# EAGLE library part THS6012 (library opamps)
THS6012: Dual high-current differential line driver (Texas Instruments) ±15V, ±400mA, 12µA bias 7mV offset, 100MHz UGF, 1.7nV/rt(Hz) noise
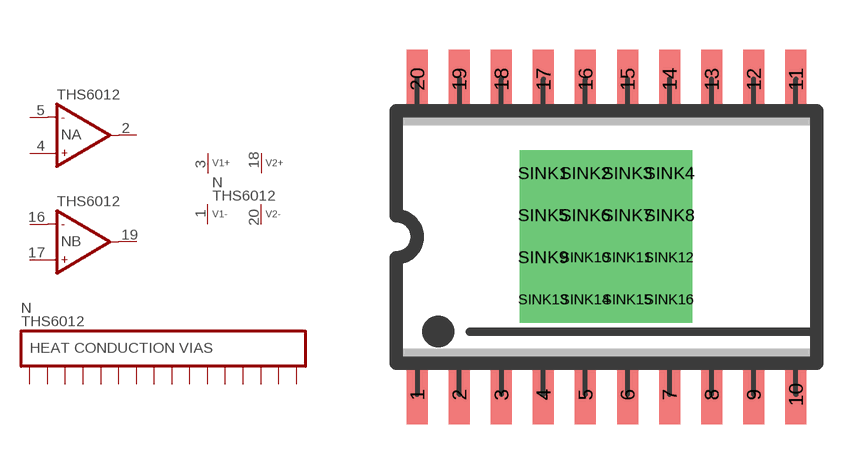
[diagram p259: symbol with the pads of SO20W-EP; footprint SO20W-EP]

Designator prefix N; gates A=OP-NAME B=OP-NAME G$1=V2+2- S=SINK16

## THS6012  [SO20W-EP]
1  G$1:V1-  pwr
2  A:OUT  out
3  G$1:V1+  pwr
4  A:IN+  in
5  A:IN-  in
16  B:IN-  in
17  B:IN+  in
18  G$1:V2+  pwr
19  B:OUT  out
20  G$1:V2-  pwr
SINK1  S:HS1
SINK2  S:HS2
SINK3  S:HS3
SINK4  S:HS4
SINK5  S:HS5
SINK6  S:HS6
SINK7  S:HS7
SINK8  S:HS8
SINK9  S:HS9
SINK10  S:HS10
SINK11  S:HS11
SINK12  S:HS12
SINK13  S:HS13
SINK14  S:HS14
SINK15  S:HS15
SINK16  S:HS16

## THS6012S  [SO20W-EP]
Pads as for SO20W-EP

## Footprint SO20W-EP (pad centres in mm)
SO-20 wide, SMD SOIC IC package (0.3" wide), 20 pins, exposed paddle
smd 0.635 x 1.778: 1 -5.715,-4.763; 2 -4.445,-4.763; 3 -3.175,-4.763; 4 -1.905,-4.763; 5 -0.635,-4.763; 6 0.635,-4.763; 7 1.905,-4.763; 8 3.175,-4.763; 9 4.445,-4.763; 10 5.715,-4.763; 11 5.715,4.763; 12 4.445,4.763; 13 3.175,4.763; 14 1.905,4.763; 15 0.635,4.763; 16 -0.635,4.763; 17 -1.905,4.763; 18 -3.175,4.763; 19 -4.445,4.763; 20 -5.715,4.763
drill 0.813 pad 1.397 square: SINK1 -1.92,1.92; SINK2 -0.65,1.92; SINK3 0.62,1.92; SINK4 1.89,1.92; SINK5 -1.92,0.65; SINK6 -0.65,0.65; SINK7 0.62,0.65; SINK8 1.89,0.65; SINK9 -1.92,-0.62; SINK10 -0.65,-0.62; SINK11 0.62,-0.62; SINK12 1.89,-0.62; SINK13 -1.92,-1.89; SINK14 -0.65,-1.89; SINK15 0.62,-1.89; SINK16 1.89,-1.89